# EAGLE library part TRACO_TEN_15_2410WI (library Robot)
TRACO POWER TEN 15-2410WI DC/DC Converter 15W. Vin: 9-36V, Vout: 3.3V
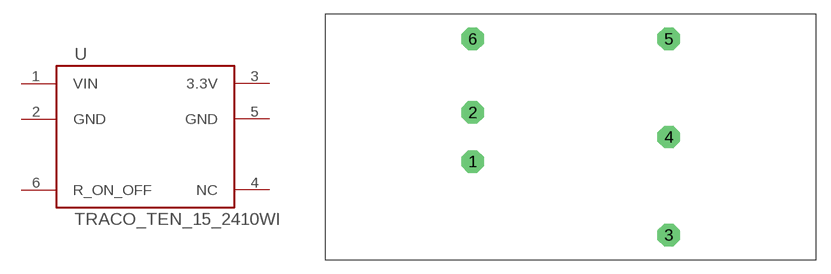
[diagram p15: symbol with the pads of TRACO_1_PER_2; footprint TRACO_1_PER_2]

Designator prefix -

## TRACO_TEN_15_2410WI  [TRACO_1_PER_2]
1  VIN  pwr
2  GND  pwr
3  3.3V  pwr
4  NC  nc
5  GND  pwr
6  R_ON_OFF

## Footprint TRACO_1_PER_2 (pad centres in mm)
TRACO POWER This is the package used by many TRACO DC/DC converter: 6-pin and 1" x 2".
drill 1.55 octagon: 1 -10.16,-2.54; 2 -10.16,2.54; 3 10.16,-10.16; 4 10.16,0; 5 10.16,10.16; 6 -10.16,10.16